# Altium schematic symbol library NCEP15T14.SchLib: 1 symbol
Pins are listed as number, name and electrical type; pins without a type are passive.

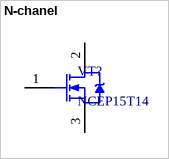
[diagram p0: symbol N-chanel]

## N-chanel
designator VT?, comment NCEP15T14
footprint TO-220(bend_rad)
pins: 1 GATE, 2 DRAIN, 3 SOURCE